# EAGLE library part 74HCT157 (library ds_ic_logic)
IC MULTIPLEXER 4 X 2:1 16-SO
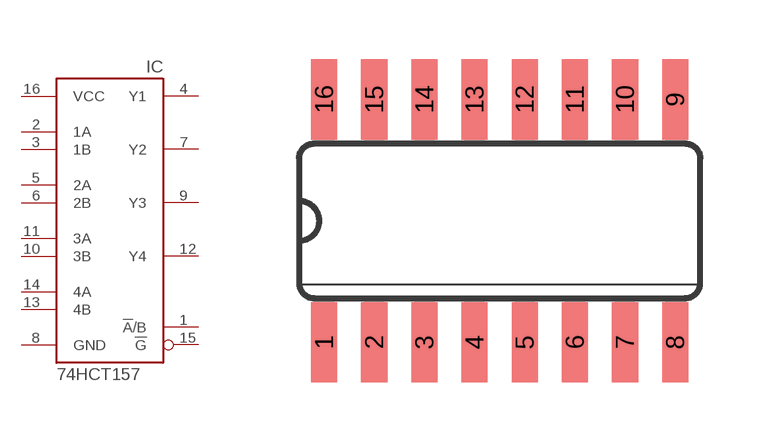
[diagram p10: symbol with the pads of SO16; footprint SO16]

Designator prefix IC

## 74HCT157 (DATASHEET: https://www.ti.com/lit/ds/symlink/sn74ls157.pdf?HQS=dis-dk-null-digikeymode-dsf-pf-null-wwe&ts=1749632263322&ref_url=https%253A%252F%252Fwww.ti.com%252Fgeneral%252Fdocs%252Fsuppproductinfo.tsp%253FdistId%253D10%2526gotoUrl%253Dhttps%253A%252F%252Fwww.ti.com%252Flit%252Fgpn%252Fsn74ls157; DESCRIPTION: 4mA 4.5V~5.5V 4mA SOIC-16 Signal Switches, Multiplexers, Decoders ROHS; LCSC_PART: C5969; VALUE: 74HCT157D)  [SO16]
1  !A!/B  in
2  1A  in
3  1B  in
4  Y1  out
5  2A  in
6  2B  in
7  Y2  out
8  GND  pwr
9  Y3  out
10  3B  in
11  3A  in
12  Y4  out
13  4B  in
14  4A  in
15  !G  in
16  VCC  pwr

## Footprint SO16 (pad centres in mm)
Small Outline package 150 mil
smd 0.66 x 2.032: 1 -4.445,-3.073; 2 -3.175,-3.073; 3 -1.905,-3.073; 4 -0.635,-3.073; 5 0.635,-3.073; 6 1.905,-3.073; 7 3.175,-3.073; 8 4.445,-3.073; 9 4.445,3.073; 10 3.175,3.073; 11 1.905,3.073; 12 0.635,3.073; 13 -0.635,3.073; 14 -1.905,3.073; 15 -3.175,3.073; 16 -4.445,3.073